# Altium schematic symbol library Schlib.SchLib: 7 symbols
Pins are listed as number, name and electrical type; pins without a type are passive.

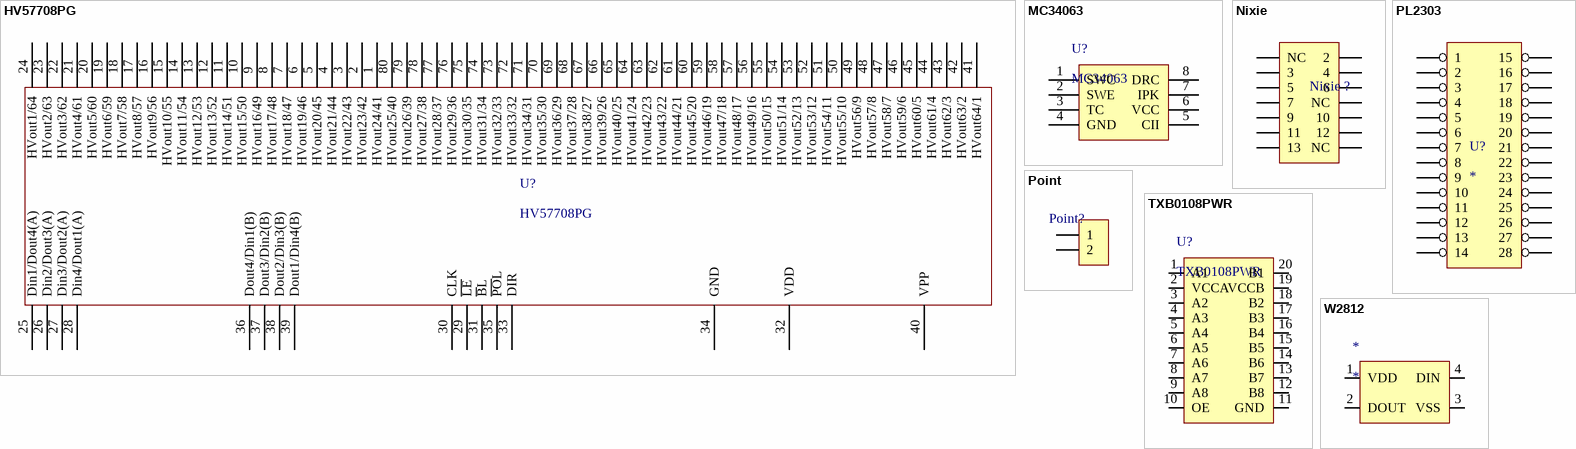
[diagram p0: symbols HV57708PG to W2812]

## HV57708PG
designator U?
串转并
footprint HV57708PG
pins: 1 HVout24/41, 2 HVout23/42, 3 HVout22/43, 4 HVout21/44, 5 HVout20/45, 6 HVout19/46, 7 HVout18/47, 8 HVout17/48, 9 HVout16/49, 10 HVout15/50, 11 HVout14/51, 12 HVout13/52, 13 HVout12/53, 14 HVout11/54, 15 HVout10/55, 16 HVout9/56, 17 HVout8/57, 18 HVout7/58, 19 HVout6/59, 20 HVout5/60, 21 HVout4/61, 22 HVout3/62, 23 HVout2/63, 24 HVout1/64, 25 Din1/Dout4(A), 26 Din2/Dout3(A), 27 Din3/Dout2(A), 28 Din4/Dout1(A), 29 ~{LE}, 30 CLK, 31 ~{B}L, 32 VDD, 33 DIR, 34 GND, 35 ~{PO}L, 36 Dout4/Din1(B), 37 Dout3/Din2(B), 38 Dout2/Din3(B), 39 Dout1/Din4(B), 40 VPP, 41 HVout64/1, 42 HVout63/2, 43 HVout62/3, 44 HVout61/4, 45 HVout60/5, 46 HVout59/6, 47 HVout58/7, 48 HVout57/8, 49 HVout56/9, 50 HVout55/10, 51 HVout54/11, 52 HVout53/12, 53 HVout52/13, 54 HVout51/14, 55 HVout50/15, 56 HVout49/16, 57 HVout48/17, 58 HVout47/18, 59 HVout46/19, 60 HVout45/20, 61 HVout44/21, 62 HVout43/22, 63 HVout42/23, 64 HVout41/24, 65 HVout40/25, 66 HVout39/26, 67 HVout38/27, 68 HVout37/28, 69 HVout36/29, 70 HVout35/30, 71 HVout34/31, 72 HVout33/32, 73 HVout32/33, 74 HVout31/34, 75 HVout30/35, 76 HVout29/36, 77 HVout28/37, 78 HVout27/38, 79 HVout26/39, 80 HVout25/40

## MC34063
designator U?
升压芯片
footprint SOP8_N (5*6*1.8mm（长宽高）)
pins: 1 SWC, 2 SWE, 3 TC, 4 GND, 5 CII, 6 VCC, 7 IPK, 8 DRC

## Nixie
designator Nixie ?, comment Nixie_Header  (value not drawn)
QS30-1
footprint Nixie_QS30-1 (QS30-1底座插针的封装)
pins: 1 NC, 2, 3, 4, 5, 6, 7, 8 NC, 9, 10, 11, 12, 13, 14 NC

## PL2303
designator U?
PL2303HXA
footprint SSOP28_N (10.2*7.8*1.9mm(长宽高）)
pins: 1, 2, 3, 4, 5, 6, 7, 8, 9, 10, 11, 12, 13, 14, 15, 16, 17, 18, 19, 20, 21, 22, 23, 24, 25, 26, 27, 28

## Point
designator Point?  (value not drawn)
氖泡
footprint HDR-1X2_M (排母，2脚)
pins: 1, 2

## TXB0108PWR
designator U?
逻辑电平转换芯片
footprint TSSOP20_N (6.5*6.4*1（长宽高）)
pins: 1 A1, 2 VCCA, 3 A2, 4 A3, 5 A4, 6 A5, 7 A6, 8 A7, 9 A8, 10 OE, 11 GND, 12 B8, 13 B7, 14 B6, 15 B5, 16 B4, 17 B3, 18 B2, 19 VCCB, 20 B1

## W2812
designator *
footprint W2812
pins: 1 VDD, 2 DOUT, 3 VSS, 4 DIN